# EAGLE library part 61301225721 (library Board_to_Board_Connectors_rev15d)
WR-PHD 2.54mm Dual Socket Header Bottom Entry, 12 Pins =>Code : Con_BTB_SHD_2.54_2_61301225721 <http://katalog.we-online.de/media/images/eican/Con_BTB_SHD_2.54_2_6130xx25721_pf2.jpg> Details see: http://katalog.we-online.de/en/em/613_0xx_257_21 Created 2014-05-30, Karrer Zheng 2014 (C) Würth Elektronik
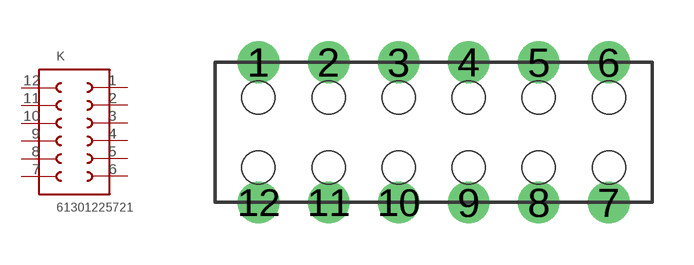
[diagram p159: symbol with the pads of 61301225721; footprint 61301225721]

Designator prefix K

## 61301225721  [61301225721]
1  1  pas
2  2  pas
3  3  pas
4  4  pas
5  5  pas
6  6  pas
7  7  pas
8  8  pas
9  9  pas
10  10  pas
11  11  pas
12  12  pas

## Footprint 61301225721 (pad centres in mm)
WR-PHD 2.54mm Dual Socket Header Bottom Entry, 12 Pins
drill 1: 1 -6.35,2.54; 2 -3.81,2.54; 3 -1.27,2.54; 4 1.27,2.54; 5 3.81,2.54; 6 6.35,2.54; 7 6.35,-2.54; 8 3.81,-2.54; 9 1.27,-2.54; 10 -1.27,-2.54; 11 -3.81,-2.54; 12 -6.35,-2.54
hole 1.2 at -6.35,1.27
hole 1.2 at -3.81,1.27
hole 1.2 at -1.27,1.27
hole 1.2 at 1.27,1.27
hole 1.2 at 3.81,1.27
hole 1.2 at 6.35,1.27
hole 1.2 at 6.35,-1.27
hole 1.2 at 3.81,-1.27
hole 1.2 at 1.27,-1.27
hole 1.2 at -1.27,-1.27
hole 1.2 at -3.81,-1.27
hole 1.2 at -6.35,-1.27